# EAGLE library part MAX6126B30 (library MAX6126B30)
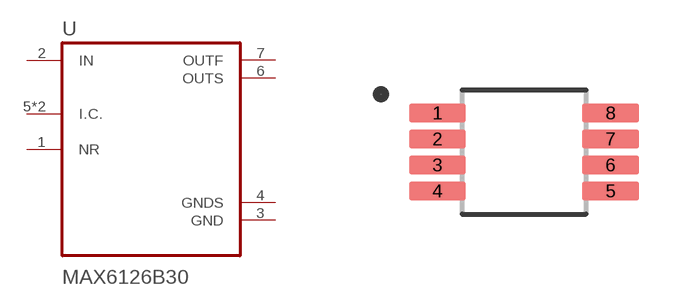
[diagram p0: symbol with the pads of SOP65P490X110-8N; footprint SOP65P490X110-8N]

Designator prefix U

## MAX6126B30 (Description: Series Voltage Reference IC Fixed 3V V ±0.1% 10 mA 8-uMAX-EP|8-uSOP-EP; Digi-Key_Part_Number: MAX6126B30+T-ND; MF: Maxim Integrated; MP: MAX6126B30+T; Package: MICRO MAX-8 Maxim; Purchase-URL: https://pricing.snapeda.com/search/part/MAX6126B30+T/?ref=eda)  [SOP65P490X110-8N]
1  NR
2  IN  in
3  GND  pwr
4  GNDS  pwr
5  I.C.
6  OUTS  out
7  OUTF  out
8  I.C.

## Footprint SOP65P490X110-8N (pad centres in mm)
smd 1.42 x 0.47: 1 -2.165,0.975; 2 -2.165,0.325; 3 -2.165,-0.325; 4 -2.165,-0.975; 5 2.165,-0.975; 6 2.165,-0.325; 7 2.165,0.325; 8 2.165,0.975